# Altium footprint library E-Switch_500SSPyS1M6yEA.PcbLib: 1 footprints
Each footprint in its own frame and in the unit in brackets; x right, y up, seen from the top. Pads: shape width x height; smd on the part's side, far side on the other; paste and mask are expansions set on the pad; w line width, h text height; cw(c..) or ccw(c..) is an arc to the next point about the centre after c.
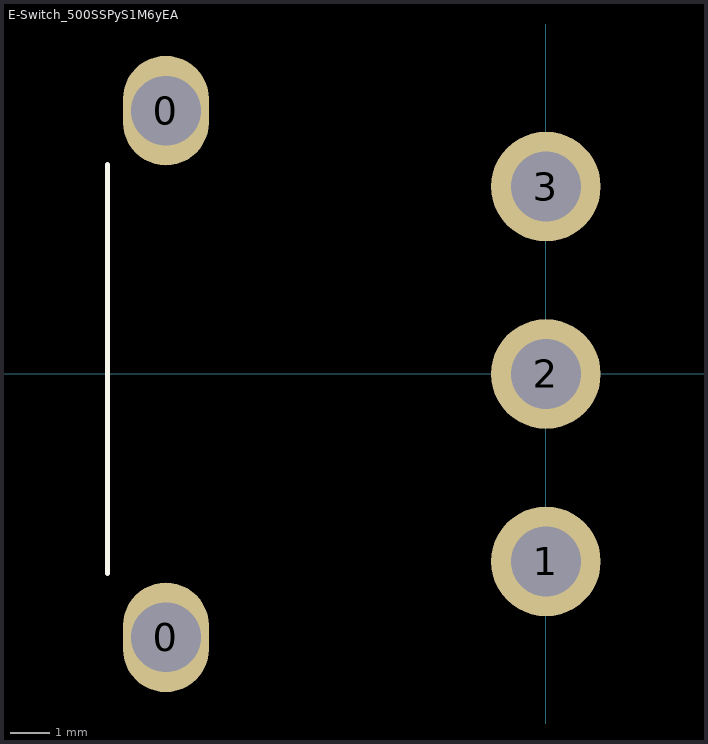
[diagram p0: the footprint, top view; thin cyan lines are the x and y axes]

## E-Switch_500SSPyS1M6yEA [mm] "E-Switch 500 Series SPDT"
pads (5):
  oval 2.15x2.75 hole 1.75: 0(-9.53,-6.605) 0(-9.53,6.605)
  round 2.75 hole 1.75: 1(0,-4.7) 2(0,0) 3(0,4.7)
Top Overlay:
  lines w0.127: -11,-5 -11,5.25
3D body "500SSPxS1M6xEA.stp": height 6.6, standoff -3.18, extent -15.58,-6.785 0.61,6.785